# Altium footprint library PcbLib1.PcbLib: 32 footprints (part 2 of 2)
Each footprint in its own frame and in the unit in brackets; x right, y up, seen from the top. Pads: shape width x height; smd on the part's side, far side on the other; paste and mask are expansions set on the pad; w line width, h text height; cw(c..) or ccw(c..) is an arc to the next point about the centre after c.
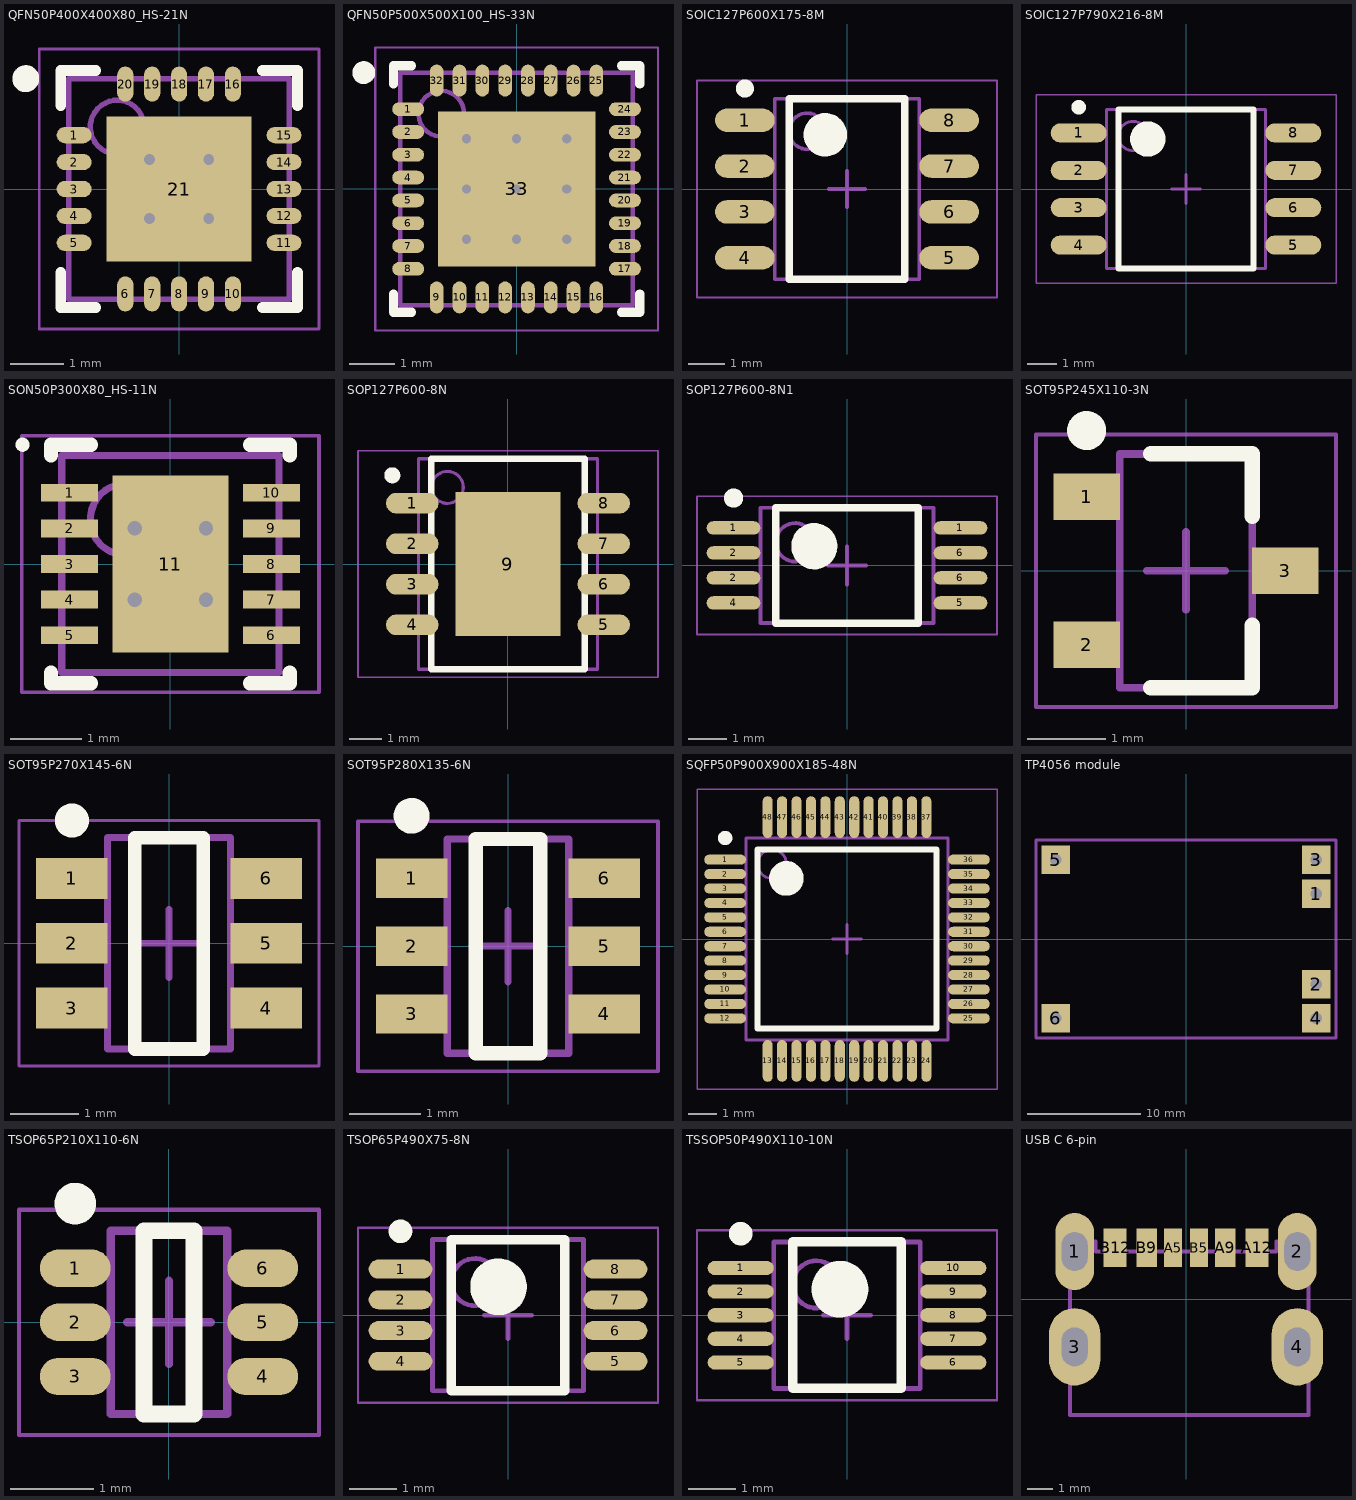
[diagram p1: the footprints below, top view; thin cyan lines are the x and y axes]

## QFN50P400X400X80_HS-21N [mm] "QFN, 20-Leads, Body 4,00x4,00mm, Pitch 0,50mm, Thermal Pad 2,70x2,70mm, IPC Medium Density"
height 0.8
pads (21):
  oval 0.65x0.3 smd: 1(-1.95,1) 2(-1.95,0.5) 3(-1.95,0) 4(-1.95,-0.5) 5(-1.95,-1) 11(1.95,-1) 12(1.95,-0.5) 13(1.95,0) 14(1.95,0.5) 15(1.95,1)
  oval 0.3x0.65 smd: 6(-1,-1.95) 7(-0.5,-1.95) 8(0,-1.95) 9(0.5,-1.95) 10(1,-1.95) 16(1,1.95) 17(0.5,1.95) 18(0,1.95) 19(-0.5,1.95) 20(-1,1.95)
  rect 2.7x2.7 smd: 21(0,0)
via 0.55,-0.55 diameter 0.5 hole 0.2
via -0.55,-0.55 diameter 0.5 hole 0.2
via 0.55,0.55 diameter 0.5 hole 0.2
via -0.55,0.55 diameter 0.5 hole 0.2
Top Overlay:
  circle w0.25: c-2.85,2.05 r0.125
  lines w0.2: -2.2,-1.55 -2.2,-2.2 -1.55,-2.2 ; -2.2,1.55 -2.2,2.2 -1.55,2.2 ; 1.55,-2.2 2.2,-2.2 2.2,-1.55 ; 1.55,2.2 2.2,2.2 2.2,1.55
Mechanical 13:
  circle w0.1: c-1.15,1.15 r0.5
  lines w0.1: -2.05,-2.05 2.05,-2.05 2.05,2.05 -2.05,2.05 -2.05,-2.05
Mechanical 15:
  lines w0.05: -2.6,-2.6 2.6,-2.6 2.6,2.6 -2.6,2.6 -2.6,-2.6
  lines w0.1: -0.5,0 0.5,0 ; 0,-0.5 0,0.5
3D body: height 0.8, standoff 0.05, extent -2.05,-2.05 2.05,2.05

## QFN50P500X500X100_HS-33N [mm] "QFN, 32-Leads, Body 5,00x5,00mm, Pitch 0,50mm, Thermal Pad 3,45x3,40mm, IPC Medium Density"
height 1
pads (33):
  oval 0.7x0.3 smd: 1(-2.375,1.75) 2(-2.375,1.25) 3(-2.375,0.75) 4(-2.375,0.25) 5(-2.375,-0.25) 6(-2.375,-0.75) 7(-2.375,-1.25) 8(-2.375,-1.75) 17(2.375,-1.75) 18(2.375,-1.25) 19(2.375,-0.75) 20(2.375,-0.25) 21(2.375,0.25) 22(2.375,0.75) 23(2.375,1.25) 24(2.375,1.75)
  oval 0.3x0.7 smd: 9(-1.75,-2.375) 10(-1.25,-2.375) 11(-0.75,-2.375) 12(-0.25,-2.375) 13(0.25,-2.375) 14(0.75,-2.375) 15(1.25,-2.375) 16(1.75,-2.375) 25(1.75,2.375) 26(1.25,2.375) 27(0.75,2.375) 28(0.25,2.375) 29(-0.25,2.375) 30(-0.75,2.375) 31(-1.25,2.375) 32(-1.75,2.375)
  rect 3.45x3.4 smd: 33(0,0)
via 1.1,-1.1 diameter 0.5 hole 0.2
via 0,-1.1 diameter 0.5 hole 0.2
via -1.1,-1.1 diameter 0.5 hole 0.2
via 1.1,0 diameter 0.5 hole 0.2
via 0,0 diameter 0.5 hole 0.2
via -1.1,0 diameter 0.5 hole 0.2
via 1.1,1.1 diameter 0.5 hole 0.2
via 0,1.1 diameter 0.5 hole 0.2
via -1.1,1.1 diameter 0.5 hole 0.2
Top Overlay:
  circle w0.25: c-3.35,2.55 r0.125
  lines w0.2: -2.7,-2.3 -2.7,-2.7 -2.3,-2.7 ; -2.7,2.3 -2.7,2.7 -2.3,2.7 ; 2.3,-2.7 2.7,-2.7 2.7,-2.3 ; 2.3,2.7 2.7,2.7 2.7,2.3
Mechanical 13:
  circle w0.1: c-1.65,1.65 r0.5
  lines w0.1: -2.55,-2.55 2.55,-2.55 2.55,2.55 -2.55,2.55 -2.55,-2.55
Mechanical 15:
  lines w0.05: -3.1,-3.1 3.1,-3.1 3.1,3.1 -3.1,3.1 -3.1,-3.1
  lines w0.1: -0.5,0 0.5,0 ; 0,-0.5 0,0.5
3D body "QFN50P500X500X100_HS-33N.step": height 1, standoff 0, extent -2.6,-2.6 2.6,2.6

## SOIC127P600X175-8M [mm] "SOIC, 8-Leads, Body 4,90x3,90mm, Pitch 1,27mm, IPC Low Density"
height 1.75
pads (8):
  oval 1.65x0.65 smd: 1(-2.825,1.905) 2(-2.825,0.635) 3(-2.825,-0.635) 4(-2.825,-1.905) 5(2.825,-1.905) 6(2.825,-0.635) 7(2.825,0.635) 8(2.825,1.905)
Top Overlay:
  circle w0.25: c-2.825,2.78 r0.125
  circle w0.6: c-0.6,1.5 r0.3
  lines w0.2: -1.6,-2.5 -1.6,2.5 1.6,2.5 1.6,-2.5 -1.6,-2.5
Mechanical 13:
  circle w0.1: c-1.1,1.6 r0.5
  lines w0.1: -2,-2.5 -2,2.5 2,2.5 2,-2.5 -2,-2.5
Mechanical 15:
  lines w0.05: -4.15,-3 -4.15,3 4.15,3 4.15,-3 -4.15,-3
  lines w0.1: -0.5,0 0.5,0 ; 0,-0.5 0,0.5
3D body: height 1.75, standoff 0.1, extent -2,-2.5 2,2.5

## SOIC127P790X216-8M [mm] "SOIC, 8-Leads, Body 5,28x5,28mm, Pitch 1,27mm, IPC Low Density"
height 2.16
pads (8):
  oval 1.9x0.65 smd: 1(-3.65,1.905) 2(-3.65,0.635) 3(-3.65,-0.635) 4(-3.65,-1.905) 5(3.65,-1.905) 6(3.65,-0.635) 7(3.65,0.635) 8(3.65,1.905)
Top Overlay:
  circle w0.25: c-3.65,2.78 r0.125
  circle w0.6: c-1.3,1.7 r0.3
  lines w0.2: -2.3,-2.7 -2.3,2.7 2.3,2.7 2.3,-2.7 -2.3,-2.7
Mechanical 13:
  circle w0.1: c-1.8,1.8 r0.5
  lines w0.1: -2.7,-2.7 -2.7,2.7 2.7,2.7 2.7,-2.7 -2.7,-2.7
Mechanical 15:
  lines w0.05: -5.1,-3.2 -5.1,3.2 5.1,3.2 5.1,-3.2 -5.1,-3.2
  lines w0.1: -0.5,0 0.5,0 ; 0,-0.5 0,0.5
3D body: height 2.16, standoff 0.05, extent -2.7,-2.7 2.7,2.7

## SON50P300X80_HS-11N [mm] "SON, 10-Leads, Body 3,00x3,00mm, Pitch 0,50mm, Thermal Pad 2,48x1,63mm, IPC Medium Density"
height 0.8
pads (11):
  rect 0.8x0.25 smd: 1(-1.415,1) 2(-1.415,0.5) 3(-1.415,0) 4(-1.415,-0.5) 5(-1.415,-1) 6(1.415,-1) 7(1.415,-0.5) 8(1.415,0) 9(1.415,0.5) 10(1.415,1)
  rect 1.63x2.48 smd: 11(0,0)
via 0.5,-0.5 diameter 0.5 hole 0.2
via -0.5,-0.5 diameter 0.5 hole 0.2
via 0.5,0.5 diameter 0.5 hole 0.2
via -0.5,0.5 diameter 0.5 hole 0.2
Top Overlay:
  circle w0.1: c-2.075,1.675 r0.05
  lines w0.2: -1.675,-1.525 -1.675,-1.675 -1.115,-1.675 ; -1.675,1.525 -1.675,1.675 -1.115,1.675 ; 1.115,-1.675 1.675,-1.675 1.675,-1.525 ; 1.115,1.675 1.675,1.675 1.675,1.525
Mechanical 13:
  circle w0.1: c-0.625,0.625 r0.5
  lines w0.1: -1.525,-1.525 1.525,-1.525 1.525,1.525 -1.525,1.525 -1.525,-1.525
Mechanical 15:
  lines w0.05: -2.085,-1.8 2.085,-1.8 2.085,1.8 -2.085,1.8 -2.085,-1.8
  lines w0.1: -0.5,0 0.5,0 ; 0,-0.5 0,0.5
3D body: height 0.8, standoff 0, extent -1.525,-1.525 1.525,1.525

## SOP127P600-8N [mm]
height 2.25
pads (9):
  oval 1.65x0.65 smd: 1(-3,1.905) 2(-3,0.635) 3(-3,-0.635) 4(-3,-1.905) 5(3,-1.905) 6(3,-0.635) 7(3,0.635) 8(3,1.905)
  rect 3.3x4.5 smd: 9(0,0)
Top Overlay:
  circle w0.25: c-3.625,2.78 r0.125
  lines w0.2: -2.4,-3.3 -2.4,3.3 2.4,3.3 2.4,-3.3 -2.4,-3.3
Mechanical 13:
  circle w0.1: c-1.9,2.4 r0.5
  lines w0.1: -2.8,-3.3 -2.8,3.3 2.8,3.3 2.8,-3.3 -2.8,-3.3
Mechanical 15:
  lines w0.05: -4.7,-3.55 -4.7,3.55 4.7,3.55 4.7,-3.55 -4.7,-3.55
  lines w0.1: -0.5,0 0.5,0 ; 0,-0.5 0,0.5
3D body: height 2.25, standoff 0.05, extent -2.8,-3.3 2.8,3.3

## SOP127P600-8N1 [mm]
height 1.2
pads (8):
  oval 1.4x0.35 smd: 1(-2.95,0.975) 1(2.95,0.975) 2(-2.95,-0.325) 2(-2.95,0.325) 4(-2.95,-0.975) 5(2.95,-0.975) 6(2.95,-0.325) 6(2.95,0.325)
Top Overlay:
  circle w0.25: c-2.95,1.75 r0.125
  circle w0.6: c-0.85,0.5 r0.3
  lines w0.2: -1.85,-1.5 -1.85,1.5 1.85,1.5 1.85,-1.5 -1.85,-1.5
Mechanical 13:
  circle w0.1: c-1.35,0.6 r0.5
  lines w0.1: -2.25,-1.5 -2.25,1.5 2.25,1.5 2.25,-1.5 -2.25,-1.5
Mechanical 15:
  lines w0.05: -3.9,-1.8 -3.9,1.8 3.9,1.8 3.9,-1.8 -3.9,-1.8
  lines w0.1: -0.5,0 0.5,0 ; 0,-0.5 0,0.5
3D body: height 1.2, standoff 0.05, extent -2.25,-1.5 2.25,1.5

## SOT95P245X110-3N [mm] "SOT23, 3-Leads, Body 2,90x2,45mm, Pitch 0,95mm, IPC Medium Density"
height 1.1
pads (3):
  rect 0.85x0.6 smd: 1(-1.275,0.95) 2(-1.275,-0.95) 3(1.275,0)
Top Overlay:
  circle w0.25: c-1.275,1.8 r0.125
  lines w0.2: -0.45,-1.5 0.85,-1.5 0.85,-0.7 ; -0.45,1.5 0.85,1.5 0.85,0.7
Mechanical 13:
  lines w0.1: -0.85,-1.5 -0.85,1.5 0.85,1.5 0.85,-1.5 -0.85,-1.5
Mechanical 15:
  lines w0.05: -1.925,-1.75 -1.925,1.75 1.925,1.75 1.925,-1.75 -1.925,-1.75
  lines w0.1: -0.5,0 0.5,0 ; 0,-0.5 0,0.5
3D body: height 1.1, standoff 0.05, extent -0.85,-1.5 0.85,1.5

## SOT95P270X145-6N [mm] "SOT23, 6-Leads, Body 2,90x2,70mm, Pitch 0,95mm, IPC Medium Density"
height 1.45
pads (6):
  rect 1.05x0.6 smd: 1(-1.425,0.95) 2(-1.425,0) 3(-1.425,-0.95) 4(1.425,-0.95) 5(1.425,0) 6(1.425,0.95)
Top Overlay:
  circle w0.25: c-1.425,1.8 r0.125
  lines w0.2: -0.5,-1.55 -0.5,1.55 0.5,1.55 0.5,-1.55 -0.5,-1.55
Mechanical 13:
  lines w0.1: -0.9,-1.55 0.9,-1.55 0.9,1.55 -0.9,1.55 -0.9,-1.55
Mechanical 15:
  lines w0.05: -2.2,-1.8 2.2,-1.8 2.2,1.8 -2.2,1.8 -2.2,-1.8
  lines w0.1: -0.5,0 0.5,0 ; 0,-0.5 0,0.5
3D body: height 1.45, standoff 0.15, extent -0.9,-1.55 0.9,1.55

## SOT95P280X135-6N [mm] "SOT23, 6-Leads, Body 2,85x2,80mm, Pitch 0,95mm, IPC Medium Density"
height 1.35
pads (6):
  rect 1x0.55 smd: 1(-1.35,0.95) 2(-1.35,0) 3(-1.35,-0.95) 4(1.35,-0.95) 5(1.35,0) 6(1.35,0.95)
Top Overlay:
  circle w0.25: c-1.35,1.825 r0.125
  lines w0.2: -0.45,-1.5 -0.45,1.5 0.45,1.5 0.45,-1.5 -0.45,-1.5
Mechanical 13:
  lines w0.1: -0.85,-1.5 0.85,-1.5 0.85,1.5 -0.85,1.5 -0.85,-1.5
Mechanical 15:
  lines w0.05: -2.1,-1.75 2.1,-1.75 2.1,1.75 -2.1,1.75 -2.1,-1.75
  lines w0.1: -0.5,0 0.5,0 ; 0,-0.5 0,0.5
3D body: height 1.35, standoff 0.05, extent -0.85,-1.5 0.85,1.5

## SQFP50P900X900X185-48N [mm] "SQFP, 48-Leads, Body 7,00x7,00mm, Pitch 0,50mm, IPC Medium Density"
height 1.85
pads (48):
  oval 1.45x0.35 smd: 1(-4.225,2.75) 2(-4.225,2.25) 3(-4.225,1.75) 4(-4.225,1.25) 5(-4.225,0.75) 6(-4.225,0.25) 7(-4.225,-0.25) 8(-4.225,-0.75) 9(-4.225,-1.25) 10(-4.225,-1.75) 11(-4.225,-2.25) 12(-4.225,-2.75) 25(4.225,-2.75) 26(4.225,-2.25) 27(4.225,-1.75) 28(4.225,-1.25) 29(4.225,-0.75) 30(4.225,-0.25) 31(4.225,0.25) 32(4.225,0.75) 33(4.225,1.25) 34(4.225,1.75) 35(4.225,2.25) 36(4.225,2.75)
  oval 0.35x1.45 smd: 13(-2.75,-4.225) 14(-2.25,-4.225) 15(-1.75,-4.225) 16(-1.25,-4.225) 17(-0.75,-4.225) 18(-0.25,-4.225) 19(0.25,-4.225) 20(0.75,-4.225) 21(1.25,-4.225) 22(1.75,-4.225) 23(2.25,-4.225) 24(2.75,-4.225) 37(2.75,4.225) 38(2.25,4.225) 39(1.75,4.225) 40(1.25,4.225) 41(0.75,4.225) 42(0.25,4.225) 43(-0.25,4.225) 44(-0.75,4.225) 45(-1.25,4.225) 46(-1.75,4.225) 47(-2.25,4.225) 48(-2.75,4.225)
Top Overlay:
  circle w0.6: c-2.1,2.1 r0.3
  circle w0.25: c-4.225,3.5 r0.125
  lines w0.2: -3.1,-3.1 3.1,-3.1 3.1,3.1 -3.1,3.1 -3.1,-3.1
Mechanical 13:
  circle w0.1: c-2.6,2.6 r0.5
  lines w0.1: -3.5,-3.5 3.5,-3.5 3.5,3.5 -3.5,3.5 -3.5,-3.5
Mechanical 15:
  lines w0.05: -5.2,-5.2 5.2,-5.2 5.2,5.2 -5.2,5.2 -5.2,-5.2
  lines w0.1: -0.5,0 0.5,0 ; 0,-0.5 0,0.5
3D body: height 1.85, standoff 0.1, extent -3.5,-3.5 3.5,3.5

## TP4056 module [mm]
height 3
pads (6):
  rect 2.5x2.5 hole 1: 1(11.5,4) 2(11.5,-4) 3(11.5,7) 4(11.5,-7) 5(-11.5,7) 6(-11.5,-7)
Mechanical 13:
  lines w0.25: -13.25,-8.75 13.25,-8.75 13.25,8.75 -13.25,8.75 -13.25,-8.75

## TSOP65P210X110-6N [mm] "TSOP, 6-Leads, Body 2,00x1,25mm, Pitch 0,65mm, IPC Medium Density"
height 1.1
pads (6):
  oval 0.85x0.45 smd: 1(-1.125,0.65) 2(-1.125,0) 3(-1.125,-0.65) 4(1.125,-0.65) 5(1.125,0) 6(1.125,0.65)
Top Overlay:
  circle w0.25: c-1.125,1.425 r0.125
  lines w0.2: -0.3,-1.1 0.3,-1.1 0.3,1.1 -0.3,1.1 -0.3,-1.1
Mechanical 13:
  lines w0.1: -0.7,-1.1 0.7,-1.1 0.7,1.1 -0.7,1.1 -0.7,-1.1
Mechanical 15:
  lines w0.05: -1.8,-1.35 1.8,-1.35 1.8,1.35 -1.8,1.35 -1.8,-1.35
  lines w0.1: -0.5,0 0.5,0 ; 0,-0.5 0,0.5
3D body: height 1.1, standoff 0.1, extent -0.7,-1.1 0.7,1.1

## TSOP65P490X75-8N [mm] "TSOP, 8-Leads, Body 3,00x3,00mm, Pitch 0,65mm, IPC Medium Density"
height 0.75
pads (8):
  oval 1.35x0.4 smd: 1(-2.275,0.975) 2(-2.275,0.325) 3(-2.275,-0.325) 4(-2.275,-0.975) 5(2.275,-0.975) 6(2.275,-0.325) 7(2.275,0.325) 8(2.275,0.975)
Top Overlay:
  circle w0.25: c-2.275,1.775 r0.125
  circle w0.6: c-0.2,0.6 r0.3
  lines w0.2: -1.2,-1.6 -1.2,1.6 1.2,1.6 1.2,-1.6 -1.2,-1.6
Mechanical 13:
  circle w0.1: c-0.7,0.7 r0.5
  lines w0.1: -1.6,-1.6 -1.6,1.6 1.6,1.6 1.6,-1.6 -1.6,-1.6
Mechanical 15:
  lines w0.05: -3.175,-1.85 -3.175,1.85 3.175,1.85 3.175,-1.85 -3.175,-1.85
  lines w0.1: -0.5,0 0.5,0 ; 0,-0.5 0,0.5
3D body: height 0.75, standoff 0.1, extent -1.6,-1.6 1.6,1.6

## TSSOP50P490X110-10N [mm] "TSSOP, 10-Leads, Body 3,00x3,00mm, Pitch 0,50mm, IPC Medium Density"
height 1.1
pads (10):
  oval 1.4x0.3 smd: 1(-2.25,1) 2(-2.25,0.5) 3(-2.25,0) 4(-2.25,-0.5) 5(-2.25,-1) 6(2.25,-1) 7(2.25,-0.5) 8(2.25,0) 9(2.25,0.5) 10(2.25,1)
Top Overlay:
  circle w0.25: c-2.25,1.725 r0.125
  circle w0.6: c-0.15,0.55 r0.3
  lines w0.2: -1.15,-1.55 -1.15,1.55 1.15,1.55 1.15,-1.55 -1.15,-1.55
Mechanical 13:
  circle w0.1: c-0.65,0.65 r0.5
  lines w0.1: -1.55,-1.55 -1.55,1.55 1.55,1.55 1.55,-1.55 -1.55,-1.55
Mechanical 15:
  lines w0.05: -3.175,-1.8 -3.175,1.8 3.175,1.8 3.175,-1.8 -3.175,-1.8
  lines w0.1: -0.5,0 0.5,0 ; 0,-0.5 0,0.5
3D body: height 1.1, standoff 0.05, extent -1.55,-1.55 1.55,1.55

## USB C 6-pin [mm]
pads (10):
  oval 1.5x3 hole 1 slot 1.5 at 90 deg unplated: 1(-4.32,1.85) 2(4.32,1.85)
  oval 2x3 hole 1 slot 1.5 at 90 deg unplated: 3(-4.32,-1.85) 4(4.32,-1.85)
  rect 0.7x1.5 smd: A5(-0.5,2) B5(0.5,2)
  rect 0.8x1.5 smd: A9(1.52,2) B9(-1.52,2)
  rect 0.9x1.5 smd: A12(2.75,2) B12(-2.75,2)
Mechanical 13:
  lines w0.15: -4.5,-4.5 4.75,-4.5 4.75,2.25 3.5,2.25 3.5,1.85 -3.5,1.85 -3.5,2.25 -4.5,2.25 -4.5,-4.5
3D body "USB_C_6pin.step": height 3.3, standoff -0.7, extent -4.5,-4.55 4.5,2.35